# Altium footprint library CR2032.PcbLib: 1 footprints
Each footprint in its own frame and in the unit in brackets; x right, y up, seen from the top. Pads: shape width x height; smd on the part's side, far side on the other; paste and mask are expansions set on the pad; w line width, h text height; cw(c..) or ccw(c..) is an arc to the next point about the centre after c.
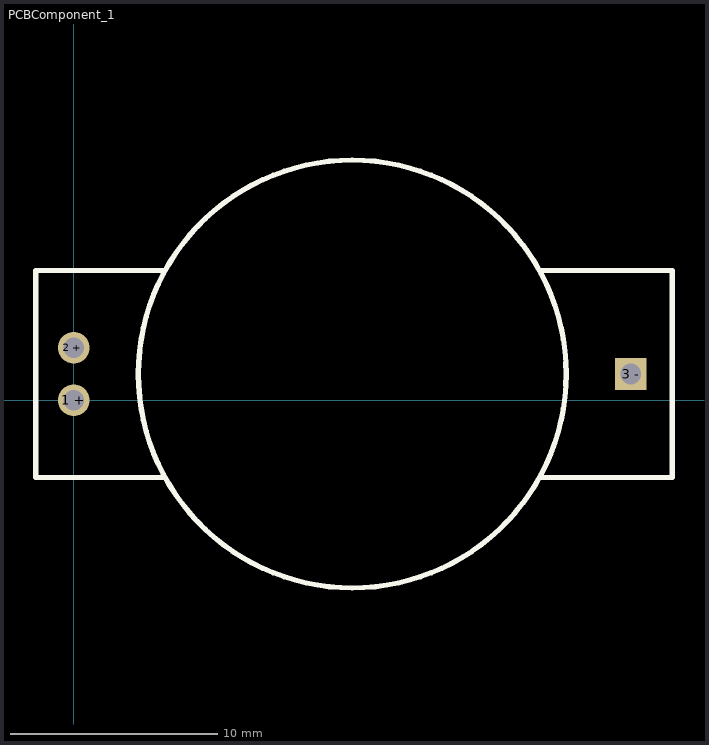
[diagram p0: the footprint, top view; thin cyan lines are the x and y axes]

## PCBComponent_1 [mm]
pads (3):
  round 1.528 hole 1: "1 +"(0,0) "2 + "(0,2.54)
  rect 1.528x1.528 hole 1: "3 -"(26.9,1.27)
Top Overlay:
  circle w0.254: c13.45,1.27 r10.331
  lines w0.254: 4.398,-3.73 -1.834,-3.73 -1.834,6.27 4.398,6.27 ; 22.526,-3.73 28.9,-3.73 28.9,6.27 22.559,6.27